# Altium footprint library fat341.PcbLib: 22 footprints (part 1 of 2)
Each footprint in its own frame and in the unit in brackets; x right, y up, seen from the top. Pads: shape width x height; smd on the part's side, far side on the other; paste and mask are expansions set on the pad; w line width, h text height; cw(c..) or ccw(c..) is an arc to the next point about the centre after c.
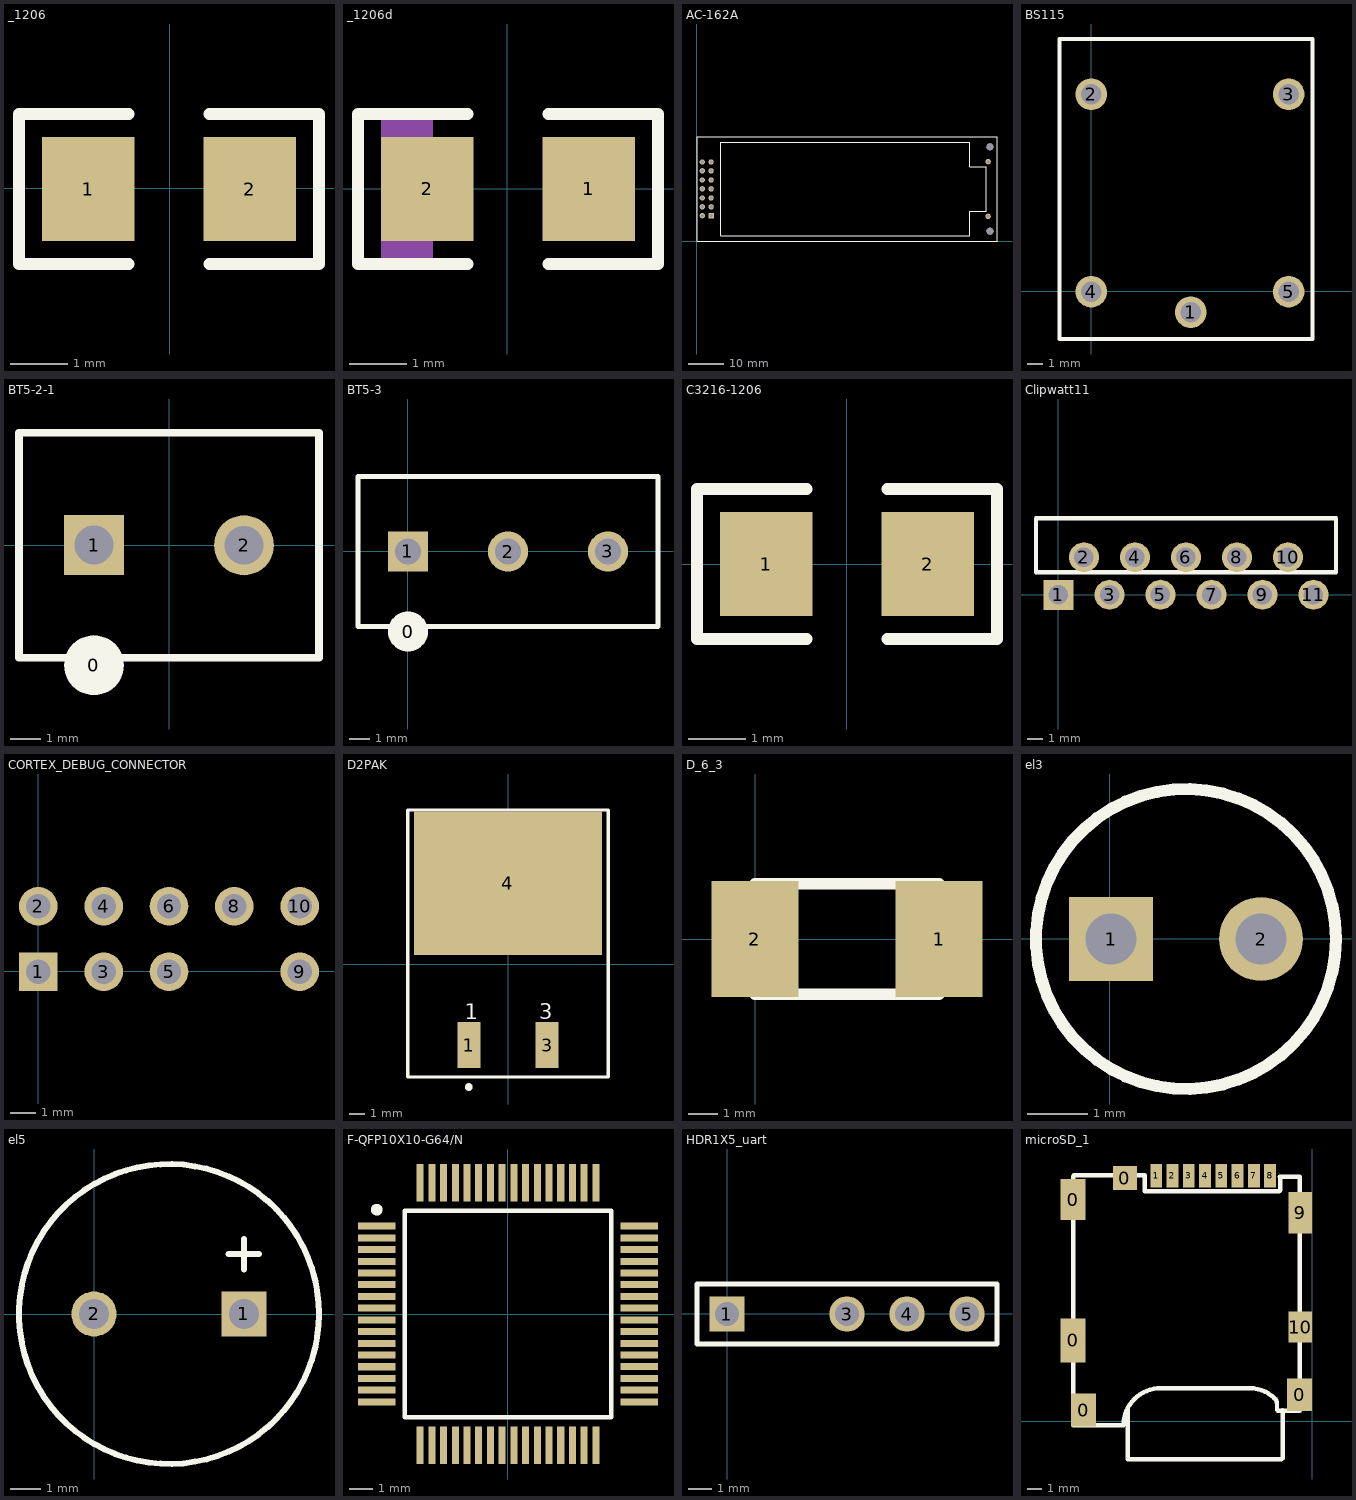
[diagram p0: the footprints below, top view; thin cyan lines are the x and y axes]

## _1206 [mm]
pads (2):
  rect 1.6x1.8 smd: 1(-1.412,-0.014) 2(1.388,-0.014)
Top Overlay:
  lines w0.2: -0.712,-1.314 -2.612,-1.314 -2.612,1.286 -0.712,1.286 ; 0.687,-1.314 2.588,-1.314 2.588,1.286 0.687,1.286

## _1206d [mm]
pads (2):
  rect 1.6x1.8 smd: 1(1.409,-0.002) 2(-1.391,-0.002)
Top Overlay:
  lines w0.2: -0.691,-1.302 -2.591,-1.302 -2.591,1.298 -0.691,1.298 ; 0.709,-1.302 2.609,-1.302 2.609,1.298 0.709,1.298
Mechanical 2:
  rectangle: -2.191,-1.302 -1.291,1.298

## AC-162A [mm]
pads (18):
  round 2 hole 2: 0(83.003,2.811) 0(83.003,26.711)
  rect 1.5x1.5 hole 0.95: 1(4.003,7.211)
  round 1.5 hole 0.95: 2(1.503,7.211) 3(4.003,9.711) 4(1.503,9.711) 5(4.003,12.211) 6(1.503,12.211) 7(4.003,14.811) 8(1.503,14.811) 9(4.003,17.311) 10(1.503,17.311) 11(4.003,19.911) 12(1.503,19.911) 13(4.003,22.411) 14(1.503,22.411) 15(82.503,22.511) 16(82.503,7.011)
Top Overlay:
  lines w0.2: 0.003,0.011 0.003,29.511 85.003,29.511 85.003,0.011 0.003,0.011 ; 6.703,1.511 6.703,28.011 77.303,28.011 77.303,21.011 82.003,21.011 82.003,8.511 77.303,8.511 77.303,1.511 6.703,1.511

## BS115 [mm]
pads (5):
  round 2 hole 1.3: 1(6.291,-1.309) 2(-0.009,12.491) 3(12.491,12.491) 4(-0.009,-0.009) 5(12.491,-0.009)
Top Overlay:
  lines w0.254: -2.009,-3.009 6.291,-3.009 13.991,-3.009 13.991,15.991 -2.009,15.991 -2.009,-3.009

## BT5-2-1 [mm]
pads (3):
  round 2 on Top Overlay: 0(-2.502,-4.006)
  rect 2x2 hole 1.3: 1(-2.502,-0.006)
  round 2 hole 1.3: 2(2.498,-0.006)
Top Overlay:
  lines w0.254: -5.002,-3.756 4.998,-3.756 4.998,3.744 -5.002,3.744 -5.002,-3.756

## BT5-3 [mm]
pads (4):
  round 2 on Top Overlay: 0(0.003,-4.006)
  rect 2x2 hole 1.3: 1(0.003,-0.006)
  round 2 hole 1.3: 2(5.003,-0.006) 3(10.003,-0.006)
Top Overlay:
  lines w0.254: -2.497,1.494 -2.497,2.494 ; -2.497,-3.756 12.503,-3.756 12.503,3.744 -2.497,3.744 -2.497,-3.756

## C3216-1206 [mm]
pads (2):
  rect 1.6x1.8 smd: 1(-1.394,0.007) 2(1.406,0.007)
Top Overlay:
  lines w0.2: -0.694,-1.293 -2.594,-1.293 -2.594,1.307 -0.694,1.307 ; 0.706,-1.293 2.606,-1.293 2.606,1.307 0.706,1.307

## Clipwatt11 [mm]
pads (11):
  rect 2x2 hole 1.3: 1(0.014,0.004)
  round 2 hole 1.3: 2(1.714,2.504) 3(3.414,0.004) 4(5.114,2.504) 5(6.814,0.004) 6(8.514,2.504) 7(10.214,0.004) 8(11.914,2.504) 9(13.614,0.004) 10(15.314,2.504) 11(17.014,0.004)
Top Overlay:
  lines w0.3: -1.486,1.504 -1.486,5.104 8.514,5.104 18.514,5.104 18.514,1.504 -1.486,1.504

## CORTEX_DEBUG_CONNECTOR [mm]
pads (9):
  rect 1.5x1.5 hole 0.95: 1(0.001,-0.012)
  round 1.5 hole 0.95: 2(0.001,2.528) 3(2.541,-0.012) 4(2.541,2.528) 5(5.081,-0.012) 6(5.081,2.528) 8(7.621,2.528) 9(10.161,-0.012) 10(10.161,2.528)

## D2PAK [mm]
pads (3):
  rect 1.5x3 smd: 1(-2.558,-5.253) 3(2.522,-5.253)
  rect 12.2x9.3 smd: 4(-0.018,5.247)
Top Overlay:
  circle w0.25: c-2.558,-7.978 r0.125
  lines w0.2: -6.518,-7.328 -6.518,9.998 6.482,9.998 6.482,-7.328 -6.518,-7.328
  text "1" at -2.808,-3.578 h1
  text "3" at 2.014,-3.578 h1

## D_6_3 [mm]
pads (2):
  rect 3x4 smd: 1(6.337,0.008) 2(-0.013,0.008)
Top Overlay:
  lines w0.4: 1.257,-1.897 1.257,1.913 ; -0.013,-1.897 -0.013,0.008 -0.013,1.913 6.337,1.913 6.337,-1.897 -0.013,-1.897

## el3 [mm]
pads (2):
  rect 1.4x1.4 hole 0.85: 1(0.021,-0.001)
  round 1.4 hole 0.85: 2(2.521,-0.001)
Top Overlay:
  circle w0.2: c1.271,-0.001 r2.5
  lines w0.3: -0.379,-0.001 0.421,-0.001 ; 0.021,-0.401 0.021,0.399

## el5 [mm]
pads (2):
  rect 1.5x1.5 hole 1: 1(4.989,0.004)
  round 1.5 hole 1: 2(-0.011,0.004)
Top Overlay:
  circle w0.2: c2.489,0.004 r5
  lines w0.2: 4.473,2.004 5.489,2.004 ; 4.989,1.488 4.989,2.504

## F-QFP10X10-G64/N [mm]
pads (64):
  rect 1.6x0.3 smd: 1(-5.598,3.754) 2(-5.598,3.254) 3(-5.598,2.754) 4(-5.598,2.254) 5(-5.598,1.754) 6(-5.598,1.254) 7(-5.598,0.754) 8(-5.598,0.254) 9(-5.598,-0.246) 10(-5.598,-0.746) 11(-5.598,-1.246) 12(-5.598,-1.746) 13(-5.598,-2.246) 14(-5.598,-2.746) 15(-5.598,-3.246) 16(-5.598,-3.746) 33(5.602,-3.746) 34(5.602,-3.246) 35(5.602,-2.746) 36(5.602,-2.246) 37(5.602,-1.746) 38(5.602,-1.246) 39(5.602,-0.746) 40(5.602,-0.246) 41(5.602,0.254) 42(5.602,0.754) 43(5.602,1.254) 44(5.602,1.754) 45(5.602,2.254) 46(5.602,2.754) 47(5.602,3.254) 48(5.602,3.754)
  rect 0.3x1.6 smd: 17(-3.748,-5.596) 18(-3.248,-5.596) 19(-2.748,-5.596) 20(-2.248,-5.596) 21(-1.748,-5.596) 22(-1.248,-5.596) 23(-0.748,-5.596) 24(-0.248,-5.596) 25(0.252,-5.596) 26(0.752,-5.596) 27(1.252,-5.596) 28(1.752,-5.596) 29(2.252,-5.596) 30(2.752,-5.596) 31(3.252,-5.596) 32(3.752,-5.596) 49(3.752,5.604) 50(3.252,5.604) 51(2.752,5.604) 52(2.252,5.604) 53(1.752,5.604) 54(1.252,5.604) 55(0.752,5.604) 56(0.252,5.604) 57(-0.248,5.604) 58(-0.748,5.604) 59(-1.248,5.604) 60(-1.748,5.604) 61(-2.248,5.604) 62(-2.748,5.604) 63(-3.248,5.604) 64(-3.748,5.604)
Top Overlay:
  circle w0.25: c-5.598,4.454 r0.125
  lines w0.2: -4.398,-4.396 -4.398,4.404 4.402,4.404 4.402,-4.396 -4.398,-4.396

## HDR1X5_uart [mm]
pads (4):
  rect 1.5x1.5 hole 1: 1(-0.014,-0.014)
  round 1.5 hole 1: 3(5.067,-0.014) 4(7.607,-0.014) 5(10.147,-0.014)
Top Overlay:
  lines w0.2: -1.283,-1.284 11.417,-1.284 11.417,1.256 -1.283,1.256 -1.283,-1.284

## microSD_1 [mm]
pads (15):
  rect 1.7x3 smd: 0(-16.141,5.47)
  rect 1.7x2.8 smd: 0(-16.141,14.995)
  rect 1.7x2.2 smd: 0(-15.44,0.77) 0(-0.84,1.795)
  rect 1.6x1.6 smd: 0(-12.641,16.445)
  rect 0.8x1.6 smd: 1(-10.531,16.595) 2(-9.43,16.595) 3(-8.33,16.595) 4(-7.231,16.595) 5(-6.13,16.595) 6(-5.031,16.595) 7(-3.931,16.595) 8(-2.83,16.595)
  rect 1.6x2.8 smd: 9(-0.79,14.095)
  rect 1.6x2.1 smd: 10(-0.79,6.37)
Top Overlay:
  lines w0.3: -12.465,0.845 -12.465,-2.555 -2.066,-2.555 -1.991,-2.48 -1.991,0.745 -2.016,0.77 ; -16.14,-0.255 -12.741,-0.255 cw(c-10.266,-0.255) -12.016,1.495 cw(c-10.205,-0.316) -10.205,2.245 -4.205,2.245 cw(c-4.205,-0.145) -2.515,1.545 cw(c-2.878,1.183) -2.365,1.183 -2.365,0.77 -2.315,0.72 -0.816,0.72 -0.816,16.495 -0.841,16.52 -2.165,16.52 -2.141,16.495 -2.141,15.62 -2.216,15.545 -11.315,15.545 -11.291,15.57 -11.291,16.62 -16.091,16.62 -16.141,16.57 -16.14,-0.255